# Altium schematic symbol library L1I0-0850090200000.SchLib: 1 symbol
Pins are listed as number, name and electrical type; pins without a type are passive.

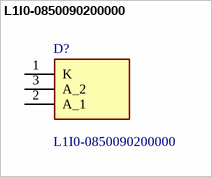
[diagram p0: symbol L1I0-0850090200000]

## L1I0-0850090200000
designator D?
Infrared Emitters - High Power Infrared, 850nm LUXEON IR; Manufacturer_Name: Lumileds; Geometry.Height: 2.87mm; Mouser Part Number: 997-L1I0085009020; Mouser Price/Stock: https://www.mouser.co.uk/ProductDetail/Lumileds/L1I0-0850090200000?qs=GedFDFLaBXE%2FbLTZOv4ZXg%3D%3D; Manufacturer_Part_Number: L1I0-0850090200000; Datasheet Link: https://lumileds.com/wp-content/uploads/files/DS191-luxeon-ir-domed-line-datasheet-1.pdf
footprint L1I00850090200000
pins: 1 K, 2 A_1, 3 A_2